# Altium schematic symbol library LEM_SME.SchLib: 1 symbol
Pins are listed as number, name and electrical type; pins without a type are passive.

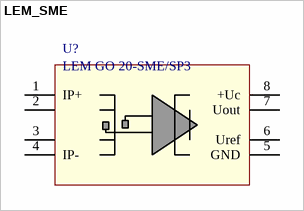
[diagram p0: symbol LEM_SME]

## LEM_SME
designator U?, comment LEM GO 20-SME/SP3
Integrated Current Transducer GO-SME s; ComponentLink1Description: Datasheet; ComponentLink1URL: https://www.lem.com/sites/default/files/products_datasheets/go-sme_series.pdf; Manufacturer: LEM; Ordering Number: GO 20-SME/SP3
footprint Lem_sme_SOIC8 (SOIC, 8-Leads, Body 4,89x3,90mm, Pitch 1,27mm, IPC Medium Density)
pins: 1 IP+, 2  , 3  , 4 IP-, 5 GND, 6 Uref, 7 Uout, 8 +Uc